# Altium integrated library Xilinx XASpartan3E FPGA.IntLib: 478 symbols (part 1 of 3)
Pins are listed as number, name and electrical type; pins without a type are passive.

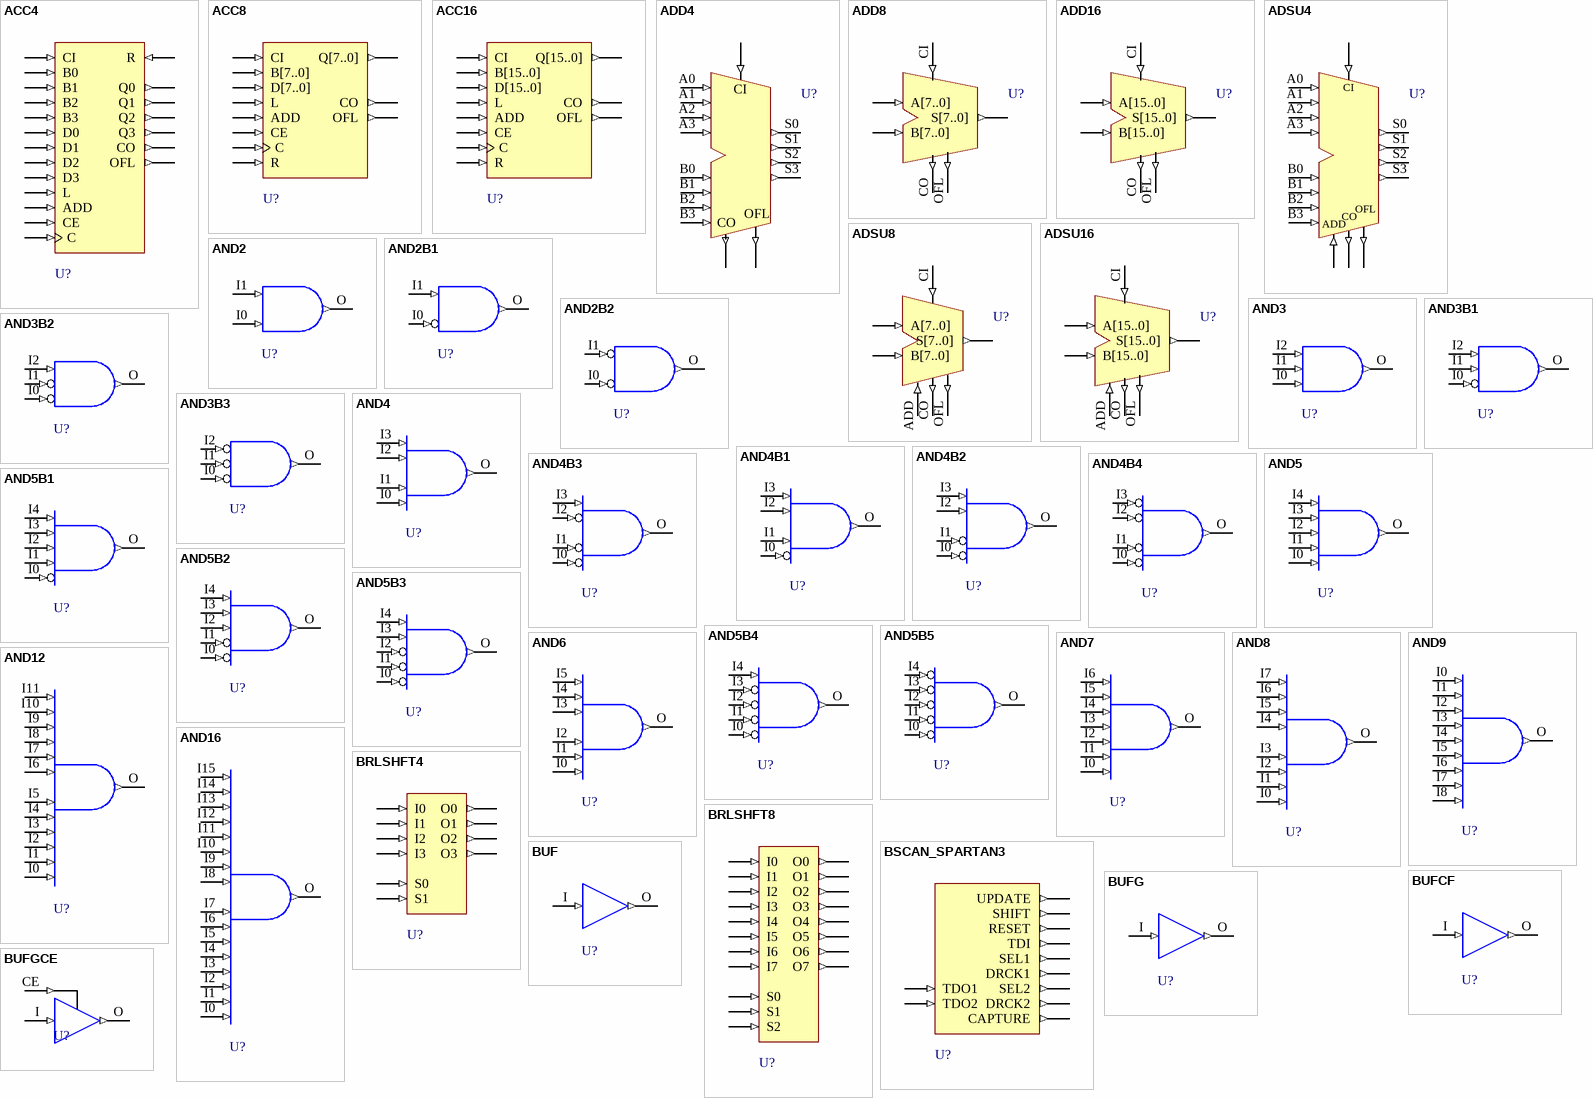
[diagram p0: symbols ACC4 to BUFGCE]

## ACC4
designator U?
4-Bit Loadable Cascadable Accumulator with Carry-In, Carry-Out and Synchronous Reset; FPGAVendor: Xilinx; Published: 20-May-2005; Publisher: Altium Limited; HelpURL: http://toolbox.xilinx.com/docsan/xilinx7/books/docs/s3esc/s3esc.pdf
pins: ADD (in), B0 (in), B1 (in), B2 (in), B3 (in), C (in), CE (in), CI (in), CO (out), D0 (in), D1 (in), D2 (in), D3 (in), L (in), OFL (out), Q0 (out), Q1 (out), Q2 (out), Q3 (out), R (in)

## ACC8
designator U?
8-Bit Loadable Cascadable Accumulator with Carry-In, Carry-Out and Synchronous Reset; FPGAVendor: Xilinx; Published: 20-May-2005; Publisher: Altium Limited; HelpURL: http://toolbox.xilinx.com/docsan/xilinx7/books/docs/s3esc/s3esc.pdf
pins: ADD (in), B[7..0] (in), C (in), CE (in), CI (in), CO (out), D[7..0] (in), L (in), OFL (out), Q[7..0] (out), R (in)

## ACC16
designator U?
16-Bit Loadable Cascadable Accumulator with Carry-In, Carry-Out and Synchronous Reset; FPGAVendor: Xilinx; Published: 20-May-2005; Publisher: Altium Limited; HelpURL: http://toolbox.xilinx.com/docsan/xilinx7/books/docs/s3esc/s3esc.pdf
pins: ADD (in), B[15..0] (in), C (in), CE (in), CI (in), CO (out), D[15..0] (in), L (in), OFL (out), Q[15..0] (out), R (in)

## ADD4
designator U?
4-Bit Cascadable Full Adders with Carry-In, Carry-Out and Overflow; FPGAVendor: Xilinx; Published: 20-May-2005; Publisher: Altium Limited; HelpURL: http://toolbox.xilinx.com/docsan/xilinx7/books/docs/s3esc/s3esc.pdf
pins: A0 (in), A1 (in), A2 (in), A3 (in), B0 (in), B1 (in), B2 (in), B3 (in), CI (in), CO (out), OFL (out), S0 (out), S1 (out), S2 (out), S3 (out)

## ADD8
designator U?
8-Bit Cascadable Full Adders with Carry-In, Carry-Out and Overflow; FPGAVendor: Xilinx; Published: 20-May-2005; Publisher: Altium Limited; HelpURL: http://toolbox.xilinx.com/docsan/xilinx7/books/docs/s3esc/s3esc.pdf
pins: A[7..0] (in), B[7..0] (in), CI (in), CO (out), OFL (out), S[7..0] (out)

## ADD16
designator U?
16-Bit Cascadable Full Adders with Carry-In, Carry-Out and Overflow; FPGAVendor: Xilinx; Published: 20-May-2005; Publisher: Altium Limited; HelpURL: http://toolbox.xilinx.com/docsan/xilinx7/books/docs/s3esc/s3esc.pdf
pins: A[15..0] (in), B[15..0] (in), CI (in), CO (out), OFL (out), S[15..0] (out)

## ADSU4
designator U?
4-Bit Cascadable Adders/Subtracters with Carry-In, Carry-Out and Overflow; FPGAVendor: Xilinx; Published: 20-May-2005; Publisher: Altium Limited; HelpURL: http://toolbox.xilinx.com/docsan/xilinx7/books/docs/s3esc/s3esc.pdf
pins: A0 (in), A1 (in), A2 (in), A3 (in), ADD (in), B0 (in), B1 (in), B2 (in), B3 (in), CI (in), CO (out), OFL (out), S0 (out), S1 (out), S2 (out), S3 (out)

## ADSU8
designator U?
8-Bit Cascadable Adders/Subtracters with Carry-In, Carry-Out and Overflow; FPGAVendor: Xilinx; Published: 20-May-2005; Publisher: Altium Limited; HelpURL: http://toolbox.xilinx.com/docsan/xilinx7/books/docs/s3esc/s3esc.pdf
pins: A[7..0] (in), ADD (in), B[7..0] (in), CI (in), CO (out), OFL (out), S[7..0] (out)

## ADSU16
designator U?
16-Bit Cascadable Adders/Subtracters with Carry-In, Carry-Out and Overflow; FPGAVendor: Xilinx; Published: 20-May-2005; Publisher: Altium Limited; HelpURL: http://toolbox.xilinx.com/docsan/xilinx7/books/docs/s3esc/s3esc.pdf
pins: A[15..0] (in), ADD (in), B[15..0] (in), CI (in), CO (out), OFL (out), S[15..0] (out)

## AND2
designator U?
2-Input AND Gate; FPGAVendor: Xilinx; Published: 20-May-2005; Publisher: Altium Limited; HelpURL: http://toolbox.xilinx.com/docsan/xilinx7/books/docs/s3esc/s3esc.pdf
pins: I0 (in), I1 (in), O (out)

## AND2B1
designator U?
2-Input AND Gate with One Inverted Input; FPGAVendor: Xilinx; Published: 20-May-2005; Publisher: Altium Limited; HelpURL: http://toolbox.xilinx.com/docsan/xilinx7/books/docs/s3esc/s3esc.pdf
pins: I0 (in), I1 (in), O (out)

## AND2B2
designator U?
2-Input AND Gate with Two Inverted Inputs; FPGAVendor: Xilinx; Published: 20-May-2005; Publisher: Altium Limited; HelpURL: http://toolbox.xilinx.com/docsan/xilinx7/books/docs/s3esc/s3esc.pdf
pins: I0 (in), I1 (in), O (out)

## AND3
designator U?
3-Input AND Gate; FPGAVendor: Xilinx; Published: 20-May-2005; Publisher: Altium Limited; HelpURL: http://toolbox.xilinx.com/docsan/xilinx7/books/docs/s3esc/s3esc.pdf
pins: I0 (in), I1 (in), I2 (in), O (out)

## AND3B1
designator U?
3-Input AND Gate with One Inverted Input; FPGAVendor: Xilinx; Published: 20-May-2005; Publisher: Altium Limited; HelpURL: http://toolbox.xilinx.com/docsan/xilinx7/books/docs/s3esc/s3esc.pdf
pins: I0 (in), I1 (in), I2 (in), O (out)

## AND3B2
designator U?
3-Input AND Gate with Two Inverted Inputs; FPGAVendor: Xilinx; Published: 20-May-2005; Publisher: Altium Limited; HelpURL: http://toolbox.xilinx.com/docsan/xilinx7/books/docs/s3esc/s3esc.pdf
pins: I0 (in), I1 (in), I2 (in), O (out)

## AND3B3
designator U?
3-Input AND Gate with Three Inverted Inputs; FPGAVendor: Xilinx; Published: 20-May-2005; Publisher: Altium Limited; HelpURL: http://toolbox.xilinx.com/docsan/xilinx7/books/docs/s3esc/s3esc.pdf
pins: I0 (in), I1 (in), I2 (in), O (out)

## AND4
designator U?
4-Input AND Gate; FPGAVendor: Xilinx; Published: 20-May-2005; Publisher: Altium Limited; HelpURL: http://toolbox.xilinx.com/docsan/xilinx7/books/docs/s3esc/s3esc.pdf
pins: I0 (in), I1 (in), I2 (in), I3 (in), O (out)

## AND4B1
designator U?
4-Input AND Gate with One Inverted Input; FPGAVendor: Xilinx; Published: 20-May-2005; Publisher: Altium Limited; HelpURL: http://toolbox.xilinx.com/docsan/xilinx7/books/docs/s3esc/s3esc.pdf
pins: I0 (in), I1 (in), I2 (in), I3 (in), O (out)

## AND4B2
designator U?
4-Input AND Gate with Two Inverted Inputs; FPGAVendor: Xilinx; Published: 20-May-2005; Publisher: Altium Limited; HelpURL: http://toolbox.xilinx.com/docsan/xilinx7/books/docs/s3esc/s3esc.pdf
pins: I0 (in), I1 (in), I2 (in), I3 (in), O (out)

## AND4B3
designator U?
4-Input AND Gate with Three Inverted Inputs; FPGAVendor: Xilinx; Published: 20-May-2005; Publisher: Altium Limited; HelpURL: http://toolbox.xilinx.com/docsan/xilinx7/books/docs/s3esc/s3esc.pdf
pins: I0 (in), I1 (in), I2 (in), I3 (in), O (out)

## AND4B4
designator U?
4-Input AND Gate with Four Inverted Inputs; FPGAVendor: Xilinx; Published: 20-May-2005; Publisher: Altium Limited; HelpURL: http://toolbox.xilinx.com/docsan/xilinx7/books/docs/s3esc/s3esc.pdf
pins: I0 (in), I1 (in), I2 (in), I3 (in), O (out)

## AND5
designator U?
5-Input AND Gate; FPGAVendor: Xilinx; Published: 20-May-2005; Publisher: Altium Limited; HelpURL: http://toolbox.xilinx.com/docsan/xilinx7/books/docs/s3esc/s3esc.pdf
pins: I0 (in), I1 (in), I2 (in), I3 (in), I4 (in), O (out)

## AND5B1
designator U?
5-Input AND Gate with One Inverted Input; FPGAVendor: Xilinx; Published: 20-May-2005; Publisher: Altium Limited; HelpURL: http://toolbox.xilinx.com/docsan/xilinx7/books/docs/s3esc/s3esc.pdf
pins: I0 (in), I1 (in), I2 (in), I3 (in), I4 (in), O (out)

## AND5B2
designator U?
5-Input AND Gate with Two Inverted Inputs; FPGAVendor: Xilinx; Published: 20-May-2005; Publisher: Altium Limited; HelpURL: http://toolbox.xilinx.com/docsan/xilinx7/books/docs/s3esc/s3esc.pdf
pins: I0 (in), I1 (in), I2 (in), I3 (in), I4 (in), O (out)

## AND5B3
designator U?
5-Input AND Gate with Three Inverted Inputs; FPGAVendor: Xilinx; Published: 20-May-2005; Publisher: Altium Limited; HelpURL: http://toolbox.xilinx.com/docsan/xilinx7/books/docs/s3esc/s3esc.pdf
pins: I0 (in), I1 (in), I2 (in), I3 (in), I4 (in), O (out)

## AND5B4
designator U?
5-Input AND Gate with Four Inverted Inputs; FPGAVendor: Xilinx; Published: 20-May-2005; Publisher: Altium Limited; HelpURL: http://toolbox.xilinx.com/docsan/xilinx7/books/docs/s3esc/s3esc.pdf
pins: I0 (in), I1 (in), I2 (in), I3 (in), I4 (in), O (out)

## AND5B5
designator U?
5-Input AND Gate with Five Inverted Inputs; FPGAVendor: Xilinx; Published: 20-May-2005; Publisher: Altium Limited; HelpURL: http://toolbox.xilinx.com/docsan/xilinx7/books/docs/s3esc/s3esc.pdf
pins: I0 (in), I1 (in), I2 (in), I3 (in), I4 (in), O (out)

## AND6
designator U?
6-Input AND Gate; FPGAVendor: Xilinx; Published: 20-May-2005; Publisher: Altium Limited; HelpURL: http://toolbox.xilinx.com/docsan/xilinx7/books/docs/s3esc/s3esc.pdf
pins: I0 (in), I1 (in), I2 (in), I3 (in), I4 (in), I5 (in), O (out)

## AND7
designator U?
7-Input AND Gate; FPGAVendor: Xilinx; Published: 20-May-2005; Publisher: Altium Limited; HelpURL: http://toolbox.xilinx.com/docsan/xilinx7/books/docs/s3esc/s3esc.pdf
pins: I0 (in), I1 (in), I2 (in), I3 (in), I4 (in), I5 (in), I6 (in), O (out)

## AND8
designator U?
8-Input AND Gate; FPGAVendor: Xilinx; Published: 20-May-2005; Publisher: Altium Limited; HelpURL: http://toolbox.xilinx.com/docsan/xilinx7/books/docs/s3esc/s3esc.pdf
pins: I0 (in), I1 (in), I2 (in), I3 (in), I4 (in), I5 (in), I6 (in), I7 (in), O (out)

## AND9
designator U?
9-Input AND Gate; FPGAVendor: Xilinx; Published: 20-May-2005; Publisher: Altium Limited; HelpURL: http://toolbox.xilinx.com/docsan/xilinx7/books/docs/s3esc/s3esc.pdf
pins: I0 (in), I1 (in), I2 (in), I3 (in), I4 (in), I5 (in), I6 (in), I7 (in), I8 (in), O (out)

## AND12
designator U?
12-Input AND Gate; FPGAVendor: Xilinx; Published: 20-May-2005; Publisher: Altium Limited; HelpURL: http://toolbox.xilinx.com/docsan/xilinx7/books/docs/s3esc/s3esc.pdf
pins: I0 (in), I1 (in), I2 (in), I3 (in), I4 (in), I5 (in), I6 (in), I7 (in), I8 (in), I9 (in), I10 (in), I11 (in), O (out)

## AND16
designator U?
16-Input AND Gate; FPGAVendor: Xilinx; Published: 20-May-2005; Publisher: Altium Limited; HelpURL: http://toolbox.xilinx.com/docsan/xilinx7/books/docs/s3esc/s3esc.pdf
pins: I0 (in), I1 (in), I2 (in), I3 (in), I4 (in), I5 (in), I6 (in), I7 (in), I8 (in), I9 (in), I10 (in), I11 (in), I12 (in), I13 (in), I14 (in), I15 (in), O (out)

## BRLSHFT4
designator U?
4-Bit Barrel Shifter; FPGAVendor: Xilinx; Published: 20-May-2005; Publisher: Altium Limited; HelpURL: http://toolbox.xilinx.com/docsan/xilinx7/books/docs/s3esc/s3esc.pdf
pins: I0 (in), I1 (in), I2 (in), I3 (in), O0 (out), O1 (out), O2 (out), O3 (out), S0 (in), S1 (in)

## BRLSHFT8
designator U?
8-Bit Barrel Shifter; FPGAVendor: Xilinx; Published: 20-May-2005; Publisher: Altium Limited; HelpURL: http://toolbox.xilinx.com/docsan/xilinx7/books/docs/s3esc/s3esc.pdf
pins: I0 (in), I1 (in), I2 (in), I3 (in), I4 (in), I5 (in), I6 (in), I7 (in), O0 (out), O1 (out), O2 (out), O3 (out), O4 (out), O5 (out), O6 (out), O7 (out), S0 (in), S1 (in), S2 (in)

## BSCAN_SPARTAN3
designator U?
Spartan-3 Boundary Scan Logic Control Circuit; FPGAVendor: Xilinx; Published: 20-May-2005; Publisher: Altium Limited; HelpURL: http://toolbox.xilinx.com/docsan/xilinx7/books/docs/s3esc/s3esc.pdf
pins: CAPTURE (out), DRCK1 (out), DRCK2 (out), RESET (out), SEL1 (out), SEL2 (out), SHIFT (out), TDI (out), TDO1 (in), TDO2 (in), UPDATE (out)

## BUF
designator U?
Global Clock Buffer; FPGAVendor: Xilinx; Published: 20-May-2005; Publisher: Altium Limited; HelpURL: http://toolbox.xilinx.com/docsan/xilinx7/books/docs/s3esc/s3esc.pdf
pins: I (in), O (out)

## BUFCF
designator U?
Global Clock Buffer; FPGAVendor: Xilinx; Published: 20-May-2005; Publisher: Altium Limited; HelpURL: http://toolbox.xilinx.com/docsan/xilinx7/books/docs/s3esc/s3esc.pdf
pins: I (in), O (out)

## BUFG
designator U?
Global Clock Buffer; FPGAVendor: Xilinx; Published: 20-May-2005; Publisher: Altium Limited; HelpURL: http://toolbox.xilinx.com/docsan/xilinx7/books/docs/s3esc/s3esc.pdf
pins: I (in), O (out)

## BUFGCE
designator U?
Global Clock MUX Buffer with Clock Enable and Output State 0; FPGAVendor: Xilinx; Published: 20-May-2005; Publisher: Altium Limited; HelpURL: http://toolbox.xilinx.com/docsan/xilinx7/books/docs/s3esc/s3esc.pdf
pins: CE (in), I (in), O (out)

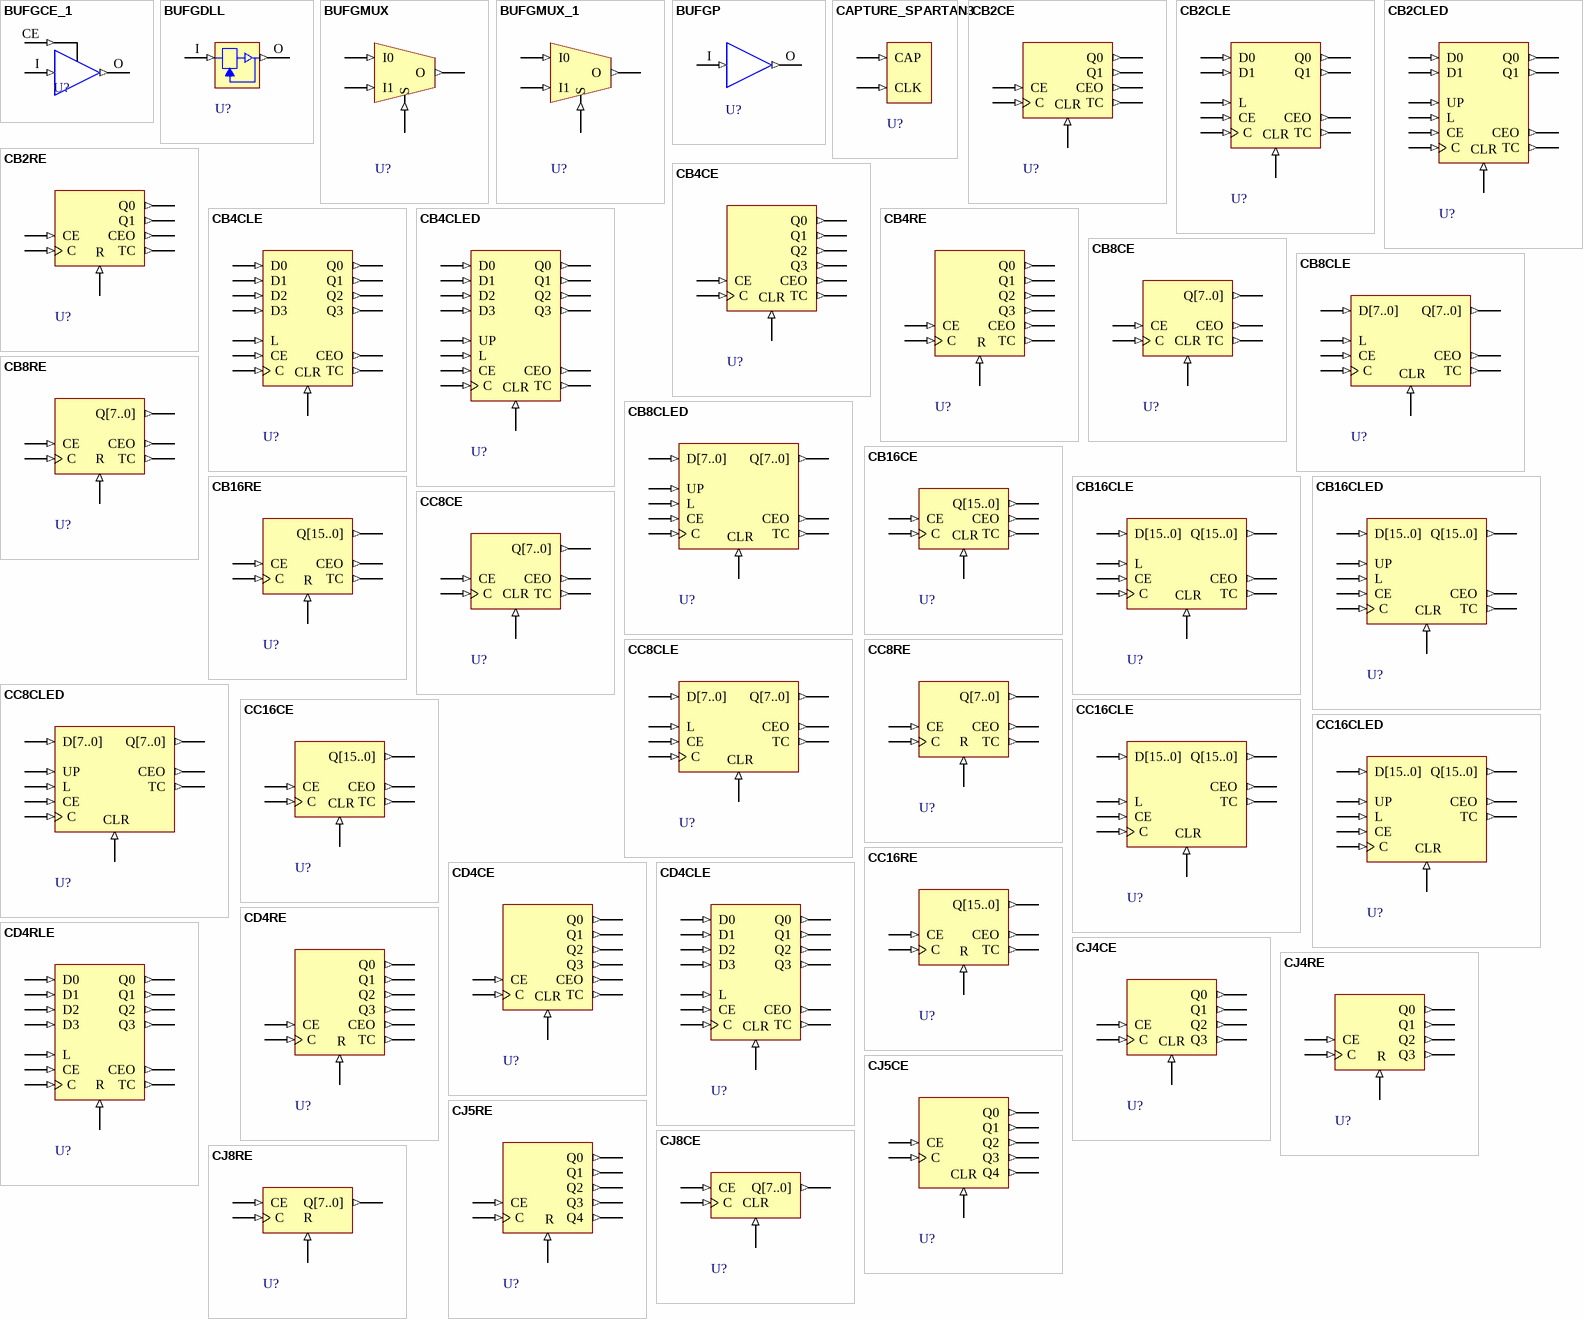
[diagram p1: symbols BUFGCE_1 to CJ8RE]

## BUFGCE_1
designator U?
Global Clock MUX Buffer with Clock Enable and Output State 1; FPGAVendor: Xilinx; Published: 20-May-2005; Publisher: Altium Limited; HelpURL: http://toolbox.xilinx.com/docsan/xilinx7/books/docs/s3esc/s3esc.pdf
pins: CE (in), I (in), O (out)

## BUFGDLL
designator U?
Clock Delay Locked Loop Buffer; FPGAVendor: Xilinx; Published: 20-May-2005; Publisher: Altium Limited; HelpURL: http://toolbox.xilinx.com/docsan/xilinx7/books/docs/s3esc/s3esc.pdf
pins: I (in), O (out)

## BUFGMUX
designator U?
Global Clock MUX Buffer with Output State 0; FPGAVendor: Xilinx; Published: 20-May-2005; Publisher: Altium Limited; HelpURL: http://toolbox.xilinx.com/docsan/xilinx7/books/docs/s3esc/s3esc.pdf
pins: I0 (in), I1 (in), O (out), S (in)

## BUFGMUX_1
designator U?
Global Clock MUX Buffer with Output State 1; FPGAVendor: Xilinx; Published: 20-May-2005; Publisher: Altium Limited; HelpURL: http://toolbox.xilinx.com/docsan/xilinx7/books/docs/s3esc/s3esc.pdf
pins: I0 (in), I1 (in), O (out), S (in)

## BUFGP
designator U?
Primary Global Buffer for Driving Clocks or Longlines (Four per PLD Device); FPGAVendor: Xilinx; Published: 20-May-2005; Publisher: Altium Limited; HelpURL: http://toolbox.xilinx.com/docsan/xilinx7/books/docs/s3esc/s3esc.pdf
pins: I (in), O (out)

## CAPTURE_SPARTAN3
designator U?
Spartan-3 Register State Capture for Bitstream Readback; FPGAVendor: Xilinx; Published: 20-May-2005; Publisher: Altium Limited; HelpURL: http://toolbox.xilinx.com/docsan/xilinx7/books/docs/s3esc/s3esc.pdf
pins: CAP (in), CLK (in)

## CB2CE
designator U?
2-Bit Cascadable Binary Counter with Clock Enable and Asynchronous Clear; FPGAVendor: Xilinx; Published: 20-May-2005; Publisher: Altium Limited; HelpURL: http://toolbox.xilinx.com/docsan/xilinx7/books/docs/s3esc/s3esc.pdf
pins: C (in), CE (in), CEO (out), CLR (in), Q0 (out), Q1 (out), TC (out)

## CB2CLE
designator U?
2-Bit Loadable Cascadable Binary Counter with Clock Enable and Asynchronous Clear; FPGAVendor: Xilinx; Published: 20-May-2005; Publisher: Altium Limited; HelpURL: http://toolbox.xilinx.com/docsan/xilinx7/books/docs/s3esc/s3esc.pdf
pins: C (in), CE (in), CEO (out), CLR (in), D0 (in), D1 (in), L (in), Q0 (out), Q1 (out), TC (out)

## CB2CLED
designator U?
2-Bit Loadable Cascadable Bidirectional Binary Counter with Clock Enable and Asynchronous Clear; FPGAVendor: Xilinx; Published: 20-May-2005; Publisher: Altium Limited; HelpURL: http://toolbox.xilinx.com/docsan/xilinx7/books/docs/s3esc/s3esc.pdf
pins: C (in), CE (in), CEO (out), CLR (in), D0 (in), D1 (in), L (in), Q0 (out), Q1 (out), TC (out), UP (in)

## CB2RE
designator U?
2-Bit Cascadable Binary Counter with Clock Enable and Synchronous Reset; FPGAVendor: Xilinx; Published: 20-May-2005; Publisher: Altium Limited; HelpURL: http://toolbox.xilinx.com/docsan/xilinx7/books/docs/s3esc/s3esc.pdf
pins: C (in), CE (in), CEO (out), Q0 (out), Q1 (out), R (in), TC (out)

## CB4CE
designator U?
4-Bit Cascadable Binary Counter with Clock Enable and Asynchronous Clear; FPGAVendor: Xilinx; Published: 20-May-2005; Publisher: Altium Limited; HelpURL: http://toolbox.xilinx.com/docsan/xilinx7/books/docs/s3esc/s3esc.pdf
pins: C (in), CE (in), CEO (out), CLR (in), Q0 (out), Q1 (out), Q2 (out), Q3 (out), TC (out)

## CB4CLE
designator U?
4-Bit Loadable Cascadable Binary Counter with Clock Enable and Asynchronous Clear; FPGAVendor: Xilinx; Published: 20-May-2005; Publisher: Altium Limited; HelpURL: http://toolbox.xilinx.com/docsan/xilinx7/books/docs/s3esc/s3esc.pdf
pins: C (in), CE (in), CEO (out), CLR (in), D0 (in), D1 (in), D2 (in), D3 (in), L (in), Q0 (out), Q1 (out), Q2 (out), Q3 (out), TC (out)

## CB4CLED
designator U?
4-Bit Loadable Cascadable Bidirectional Binary Counter with Clock Enable and Asynchronous Clear; FPGAVendor: Xilinx; Published: 20-May-2005; Publisher: Altium Limited; HelpURL: http://toolbox.xilinx.com/docsan/xilinx7/books/docs/s3esc/s3esc.pdf
pins: C (in), CE (in), CEO (out), CLR (in), D0 (in), D1 (in), D2 (in), D3 (in), L (in), Q0 (out), Q1 (out), Q2 (out), Q3 (out), TC (out), UP (in)

## CB4RE
designator U?
4-Bit Cascadable Binary Counter with Clock Enable and Synchronous Reset; FPGAVendor: Xilinx; Published: 20-May-2005; Publisher: Altium Limited; HelpURL: http://toolbox.xilinx.com/docsan/xilinx7/books/docs/s3esc/s3esc.pdf
pins: C (in), CE (in), CEO (out), Q0 (out), Q1 (out), Q2 (out), Q3 (out), R (in), TC (out)

## CB8CE
designator U?
8-Bit Cascadable Binary Counter with Clock Enable and Asynchronous Clear; FPGAVendor: Xilinx; Published: 20-May-2005; Publisher: Altium Limited; HelpURL: http://toolbox.xilinx.com/docsan/xilinx7/books/docs/s3esc/s3esc.pdf
pins: C (in), CE (in), CEO (out), CLR (in), Q[7..0] (out), TC (out)

## CB8CLE
designator U?
8-Bit Loadable Cascadable Binary Counter with Clock Enable and Asynchronous Clear; FPGAVendor: Xilinx; Published: 20-May-2005; Publisher: Altium Limited; HelpURL: http://toolbox.xilinx.com/docsan/xilinx7/books/docs/s3esc/s3esc.pdf
pins: C (in), CE (in), CEO (out), CLR (in), D[7..0] (in), L (in), Q[7..0] (out), TC (out)

## CB8CLED
designator U?
8-Bit Loadable Cascadable Bidirectional Binary Counter with Clock Enable and Asynchronous Clear; FPGAVendor: Xilinx; Published: 20-May-2005; Publisher: Altium Limited; HelpURL: http://toolbox.xilinx.com/docsan/xilinx7/books/docs/s3esc/s3esc.pdf
pins: C (in), CE (in), CEO (out), CLR (in), D[7..0] (in), L (in), Q[7..0] (out), TC (out), UP (in)

## CB8RE
designator U?
8-Bit Cascadable Binary Counter with Clock Enable and Synchronous Reset; FPGAVendor: Xilinx; Published: 20-May-2005; Publisher: Altium Limited; HelpURL: http://toolbox.xilinx.com/docsan/xilinx7/books/docs/s3esc/s3esc.pdf
pins: C (in), CE (in), CEO (out), Q[7..0] (out), R (in), TC (out)

## CB16CE
designator U?
16-Bit Cascadable Binary Counter with Clock Enable and Asynchronous Clear; FPGAVendor: Xilinx; Published: 20-May-2005; Publisher: Altium Limited; HelpURL: http://toolbox.xilinx.com/docsan/xilinx7/books/docs/s3esc/s3esc.pdf
pins: C (in), CE (in), CEO (out), CLR (in), Q[15..0] (out), TC (out)

## CB16CLE
designator U?
16-Bit Loadable Cascadable Binary Counters with Clock Enable and Asynchronous Clear; FPGAVendor: Xilinx; Published: 20-May-2005; Publisher: Altium Limited; HelpURL: http://toolbox.xilinx.com/docsan/xilinx7/books/docs/s3esc/s3esc.pdf
pins: C (in), CE (in), CEO (out), CLR (in), D[15..0] (in), L (in), Q[15..0] (out), TC (out)

## CB16CLED
designator U?
16-Bit Loadable Cascadable Bidirectional Binary Counter with Clock Enable and Asynchronous Clear; FPGAVendor: Xilinx; Published: 20-May-2005; Publisher: Altium Limited; HelpURL: http://toolbox.xilinx.com/docsan/xilinx7/books/docs/s3esc/s3esc.pdf
pins: C (in), CE (in), CEO (out), CLR (in), D[15..0] (in), L (in), Q[15..0] (out), TC (out), UP (in)

## CB16RE
designator U?
16-Bit Cascadable Binary Counter with Clock Enable and Synchronous Reset; FPGAVendor: Xilinx; Published: 20-May-2005; Publisher: Altium Limited; HelpURL: http://toolbox.xilinx.com/docsan/xilinx7/books/docs/s3esc/s3esc.pdf
pins: C (in), CE (in), CEO (out), Q[15..0] (out), R (in), TC (out)

## CC8CE
designator U?
8-Bit Cascadable Binary Counter with Clock Enable and Asynchronous Clear; FPGAVendor: Xilinx; Published: 20-May-2005; Publisher: Altium Limited; HelpURL: http://toolbox.xilinx.com/docsan/xilinx7/books/docs/s3esc/s3esc.pdf
pins: C (in), CE (in), CEO (out), CLR (in), Q[7..0] (out), TC (out)

## CC8CLE
designator U?
8-Bit Loadable Cascadable Binary Counter with Clock Enable and Asynchronous Clear; FPGAVendor: Xilinx; Published: 20-May-2005; Publisher: Altium Limited; HelpURL: http://toolbox.xilinx.com/docsan/xilinx7/books/docs/s3esc/s3esc.pdf
pins: C (in), CE (in), CEO (out), CLR (in), D[7..0] (in), L (in), Q[7..0] (out), TC (out)

## CC8CLED
designator U?
8-Bit Loadable Cascadable Bidirectional Binary Counter with Clock Enable and Asynchronous Clear; FPGAVendor: Xilinx; Published: 20-May-2005; Publisher: Altium Limited; HelpURL: http://toolbox.xilinx.com/docsan/xilinx7/books/docs/s3esc/s3esc.pdf
pins: C (in), CE (in), CEO (out), CLR (in), D[7..0] (in), L (in), Q[7..0] (out), TC (out), UP (in)

## CC8RE
designator U?
8-Bit Cascadable Binary Counter with Clock Enable and Synchronous Reset; FPGAVendor: Xilinx; Published: 20-May-2005; Publisher: Altium Limited; HelpURL: http://toolbox.xilinx.com/docsan/xilinx7/books/docs/s3esc/s3esc.pdf
pins: C (in), CE (in), CEO (out), Q[7..0] (out), R (in), TC (out)

## CC16CE
designator U?
16-Bit Cascadable Binary Counter with Clock Enable and Asynchronous Clear; FPGAVendor: Xilinx; Published: 20-May-2005; Publisher: Altium Limited; HelpURL: http://toolbox.xilinx.com/docsan/xilinx7/books/docs/s3esc/s3esc.pdf
pins: C (in), CE (in), CEO (out), CLR (in), Q[15..0] (out), TC (out)

## CC16CLE
designator U?
16-Bit Loadable Cascadable Binary Counter with Clock Enable and Asynchronous Clear; FPGAVendor: Xilinx; Published: 20-May-2005; Publisher: Altium Limited; HelpURL: http://toolbox.xilinx.com/docsan/xilinx7/books/docs/s3esc/s3esc.pdf
pins: C (in), CE (in), CEO (out), CLR (in), D[15..0] (in), L (in), Q[15..0] (out), TC (out)

## CC16CLED
designator U?
16-Bit Loadable Cascadable Bidirectional Binary Counter with Clock Enable and Asynchronous Clear; FPGAVendor: Xilinx; Published: 20-May-2005; Publisher: Altium Limited; HelpURL: http://toolbox.xilinx.com/docsan/xilinx7/books/docs/s3esc/s3esc.pdf
pins: C (in), CE (in), CEO (out), CLR (in), D[15..0] (in), L (in), Q[15..0] (out), TC (out), UP (in)

## CC16RE
designator U?
16-Bit Cascadable Binary Counter with Clock Enable and Synchronous Reset; FPGAVendor: Xilinx; Published: 20-May-2005; Publisher: Altium Limited; HelpURL: http://toolbox.xilinx.com/docsan/xilinx7/books/docs/s3esc/s3esc.pdf
pins: C (in), CE (in), CEO (out), Q[15..0] (out), R (in), TC (out)

## CD4CE
designator U?
4-Bit Cascadable BCD Counter with Clock Enable and Asynchronous Clear; FPGAVendor: Xilinx; Published: 20-May-2005; Publisher: Altium Limited; HelpURL: http://toolbox.xilinx.com/docsan/xilinx7/books/docs/s3esc/s3esc.pdf
pins: C (in), CE (in), CEO (out), CLR (in), Q0 (out), Q1 (out), Q2 (out), Q3 (out), TC (out)

## CD4CLE
designator U?
4-Bit Loadable Cascadable BCD Counter with Clock Enable and Asynchronous Clear; FPGAVendor: Xilinx; Published: 20-May-2005; Publisher: Altium Limited; HelpURL: http://toolbox.xilinx.com/docsan/xilinx7/books/docs/s3esc/s3esc.pdf
pins: C (in), CE (in), CEO (out), CLR (in), D0 (in), D1 (in), D2 (in), D3 (in), L (in), Q0 (out), Q1 (out), Q2 (out), Q3 (out), TC (out)

## CD4RE
designator U?
4-Bit Cascadable BCD Counter with Clock Enable and Synchronous Reset; FPGAVendor: Xilinx; Published: 20-May-2005; Publisher: Altium Limited; HelpURL: http://toolbox.xilinx.com/docsan/xilinx7/books/docs/s3esc/s3esc.pdf
pins: C (in), CE (in), CEO (out), Q0 (out), Q1 (out), Q2 (out), Q3 (out), R (in), TC (out)

## CD4RLE
designator U?
4-Bit Loadable Cascadable BCD Counter with Clock Enable and Synchronous Reset; FPGAVendor: Xilinx; Published: 20-May-2005; Publisher: Altium Limited; HelpURL: http://toolbox.xilinx.com/docsan/xilinx7/books/docs/s3esc/s3esc.pdf
pins: C (in), CE (in), CEO (out), D0 (in), D1 (in), D2 (in), D3 (in), L (in), Q0 (out), Q1 (out), Q2 (out), Q3 (out), R (in), TC (out)

## CJ4CE
designator U?
4-Bit Johnson Counter with Clock Enable and Asynchronous Clear; FPGAVendor: Xilinx; Published: 20-May-2005; Publisher: Altium Limited; HelpURL: http://toolbox.xilinx.com/docsan/xilinx7/books/docs/s3esc/s3esc.pdf
pins: C (in), CE (in), CLR (in), Q0 (out), Q1 (out), Q2 (out), Q3 (out)

## CJ4RE
designator U?
4-Bit Johnson Counter with Clock Enable and Synchronous Reset; FPGAVendor: Xilinx; Published: 20-May-2005; Publisher: Altium Limited; HelpURL: http://toolbox.xilinx.com/docsan/xilinx7/books/docs/s3esc/s3esc.pdf
pins: C (in), CE (in), Q0 (out), Q1 (out), Q2 (out), Q3 (out), R (in)

## CJ5CE
designator U?
5-Bit Johnson Counter with Clock Enable and Asynchronous Clear; FPGAVendor: Xilinx; Published: 20-May-2005; Publisher: Altium Limited; HelpURL: http://toolbox.xilinx.com/docsan/xilinx7/books/docs/s3esc/s3esc.pdf
pins: C (in), CE (in), CLR (in), Q0 (out), Q1 (out), Q2 (out), Q3 (out), Q4 (out)

## CJ5RE
designator U?
5-Bit Johnson Counters with Clock Enable and Synchronous Reset; FPGAVendor: Xilinx; Published: 20-May-2005; Publisher: Altium Limited; HelpURL: http://toolbox.xilinx.com/docsan/xilinx7/books/docs/s3esc/s3esc.pdf
pins: C (in), CE (in), Q0 (out), Q1 (out), Q2 (out), Q3 (out), Q4 (out), R (in)

## CJ8CE
designator U?
8-Bit Johnson Counter with Clock Enable and Asynchronous Clear; FPGAVendor: Xilinx; Published: 20-May-2005; Publisher: Altium Limited; HelpURL: http://toolbox.xilinx.com/docsan/xilinx7/books/docs/s3esc/s3esc.pdf
pins: C (in), CE (in), CLR (in), Q[7..0] (out)

## CJ8RE
designator U?
8-Bit Johnson Counter with Clock Enable and Synchronous Reset; FPGAVendor: Xilinx; Published: 20-May-2005; Publisher: Altium Limited; HelpURL: http://toolbox.xilinx.com/docsan/xilinx7/books/docs/s3esc/s3esc.pdf
pins: C (in), CE (in), Q[7..0] (out), R (in)

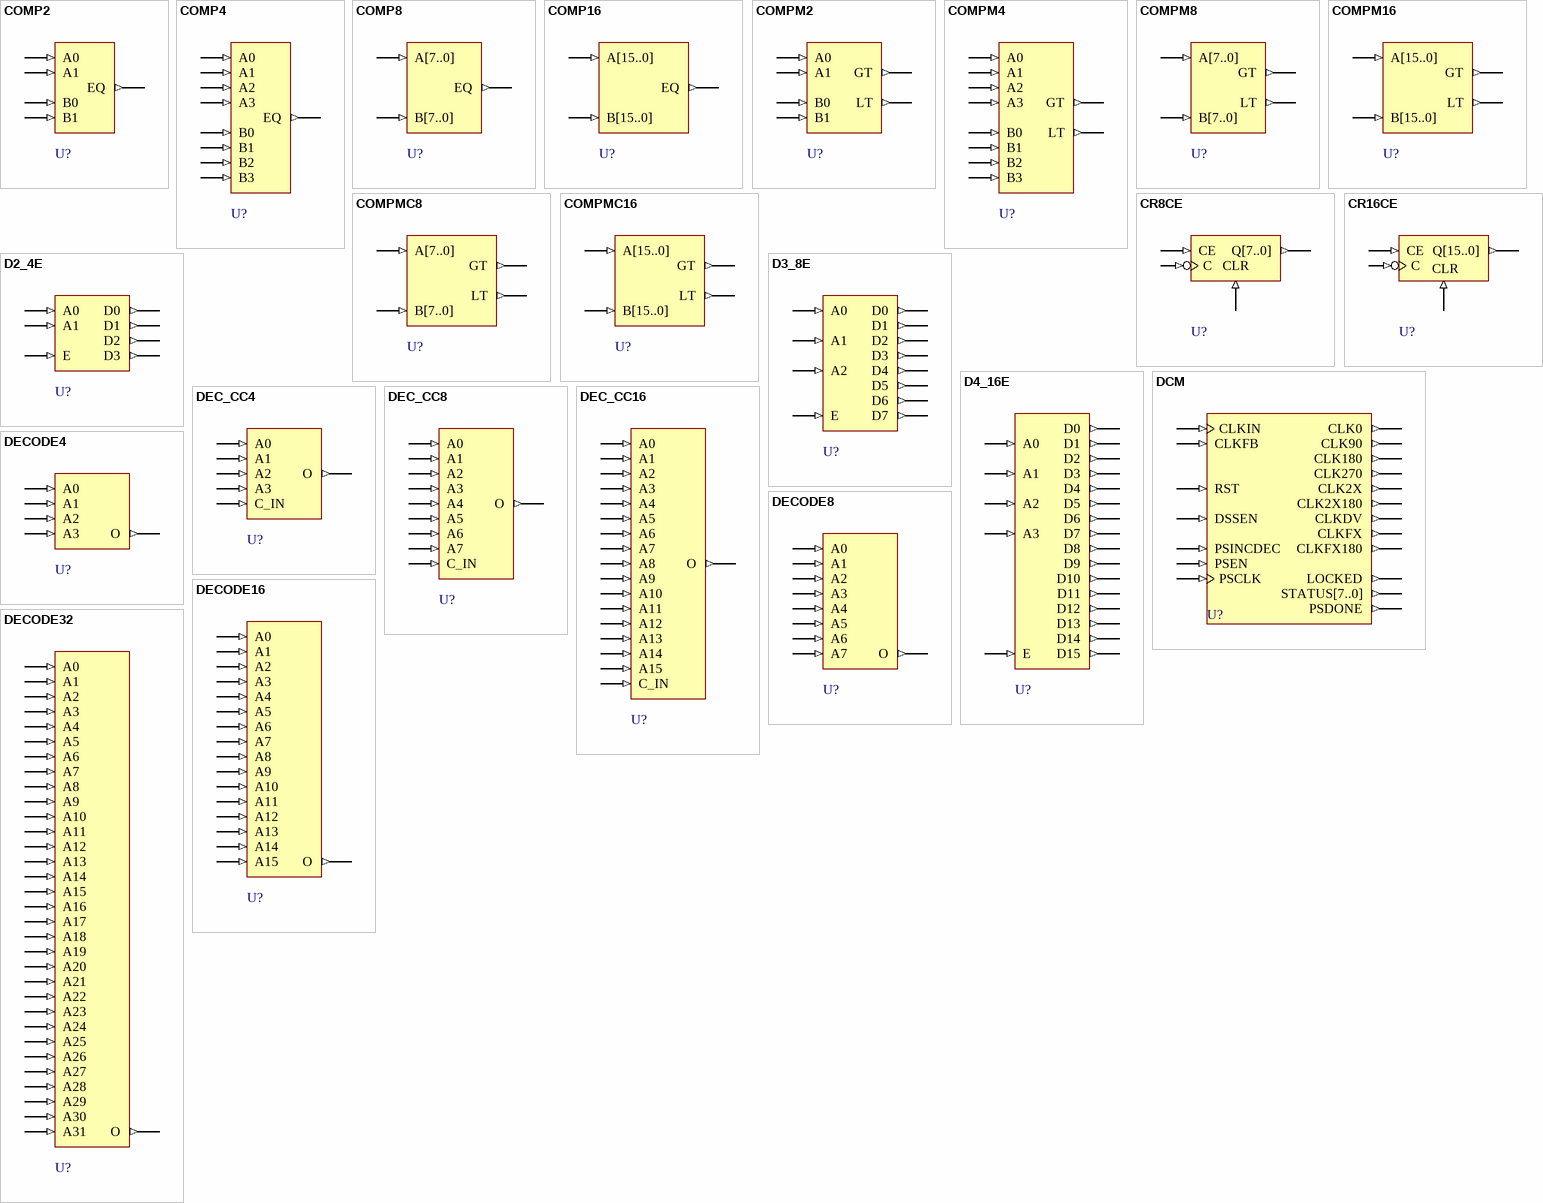
[diagram p2: symbols COMP2 to DECODE32]

## COMP2
designator U?
2-Bit Identity Comparator; FPGAVendor: Xilinx; Published: 20-May-2005; Publisher: Altium Limited; HelpURL: http://toolbox.xilinx.com/docsan/xilinx7/books/docs/s3esc/s3esc.pdf
pins: A0 (in), A1 (in), B0 (in), B1 (in), EQ (out)

## COMP4
designator U?
4-Bit Identity Comparator; FPGAVendor: Xilinx; Published: 20-May-2005; Publisher: Altium Limited; HelpURL: http://toolbox.xilinx.com/docsan/xilinx7/books/docs/s3esc/s3esc.pdf
pins: A0 (in), A1 (in), A2 (in), A3 (in), B0 (in), B1 (in), B2 (in), B3 (in), EQ (out)

## COMP8
designator U?
8-Bit Identity Comparator; FPGAVendor: Xilinx; Published: 20-May-2005; Publisher: Altium Limited; HelpURL: http://toolbox.xilinx.com/docsan/xilinx7/books/docs/s3esc/s3esc.pdf
pins: A[7..0] (in), B[7..0] (in), EQ (out)

## COMP16
designator U?
16-Bit Identity Comparator; FPGAVendor: Xilinx; Published: 20-May-2005; Publisher: Altium Limited; HelpURL: http://toolbox.xilinx.com/docsan/xilinx7/books/docs/s3esc/s3esc.pdf
pins: A[15..0] (in), B[15..0] (in), EQ (out)

## COMPM2
designator U?
2-Bit Magnitude Comparator; FPGAVendor: Xilinx; Published: 20-May-2005; Publisher: Altium Limited; HelpURL: http://toolbox.xilinx.com/docsan/xilinx7/books/docs/s3esc/s3esc.pdf
pins: A0 (in), A1 (in), B0 (in), B1 (in), GT (out), LT (out)

## COMPM4
designator U?
4-Bit Magnitude Comparator; FPGAVendor: Xilinx; Published: 20-May-2005; Publisher: Altium Limited; HelpURL: http://toolbox.xilinx.com/docsan/xilinx7/books/docs/s3esc/s3esc.pdf
pins: A0 (in), A1 (in), A2 (in), A3 (in), B0 (in), B1 (in), B2 (in), B3 (in), GT (out), LT (out)

## COMPM8
designator U?
8-Bit Magnitude Comparator; FPGAVendor: Xilinx; Published: 20-May-2005; Publisher: Altium Limited; HelpURL: http://toolbox.xilinx.com/docsan/xilinx7/books/docs/s3esc/s3esc.pdf
pins: A[7..0] (in), B[7..0] (in), GT (out), LT (out)

## COMPM16
designator U?
16-Bit Magnitude Comparator; FPGAVendor: Xilinx; Published: 20-May-2005; Publisher: Altium Limited; HelpURL: http://toolbox.xilinx.com/docsan/xilinx7/books/docs/s3esc/s3esc.pdf
pins: A[15..0] (in), B[15..0] (in), GT (out), LT (out)

## COMPMC8
designator U?
8-Bit Magnitude Comparator; FPGAVendor: Xilinx; Published: 20-May-2005; Publisher: Altium Limited; HelpURL: http://toolbox.xilinx.com/docsan/xilinx7/books/docs/s3esc/s3esc.pdf
pins: A[7..0] (in), B[7..0] (in), GT (out), LT (out)

## COMPMC16
designator U?
16-Bit Magnitude Comparator; FPGAVendor: Xilinx; Published: 20-May-2005; Publisher: Altium Limited; HelpURL: http://toolbox.xilinx.com/docsan/xilinx7/books/docs/s3esc/s3esc.pdf
pins: A[15..0] (in), B[15..0] (in), GT (out), LT (out)

## CR8CE
designator U?
8-Bit Negative-Edge Binary Ripple Counter with Clock Enable and Asynchronous Clear; FPGAVendor: Xilinx; Published: 20-May-2005; Publisher: Altium Limited; HelpURL: http://toolbox.xilinx.com/docsan/xilinx7/books/docs/s3esc/s3esc.pdf
pins: C (in), CE (in), CLR (in), Q[7..0] (out)

## CR16CE
designator U?
16-Bit Negative-Edge Binary Ripple Counter with Clock Enable and Asynchronous Clear; FPGAVendor: Xilinx; Published: 20-May-2005; Publisher: Altium Limited; HelpURL: http://toolbox.xilinx.com/docsan/xilinx7/books/docs/s3esc/s3esc.pdf
pins: C (in), CE (in), CLR (in), Q[15..0] (out)

## D2_4E
designator U?
2- to 4-Line Decoder/Demultiplexer with Enable; FPGAVendor: Xilinx; Published: 20-May-2005; Publisher: Altium Limited; HelpURL: http://toolbox.xilinx.com/docsan/xilinx7/books/docs/s3esc/s3esc.pdf
pins: A0 (in), A1 (in), D0 (out), D1 (out), D2 (out), D3 (out), E (in)

## D3_8E
designator U?
3- to 8-Line Decoder/Demultiplexer with Enable; FPGAVendor: Xilinx; Published: 20-May-2005; Publisher: Altium Limited; HelpURL: http://toolbox.xilinx.com/docsan/xilinx7/books/docs/s3esc/s3esc.pdf
pins: A0 (in), A1 (in), A2 (in), D0 (out), D1 (out), D2 (out), D3 (out), D4 (out), D5 (out), D6 (out), D7 (out), E (in)

## D4_16E
designator U?
4- to 16-Line Decoder/Demultiplexer with Enable; FPGAVendor: Xilinx; Published: 20-May-2005; Publisher: Altium Limited; HelpURL: http://toolbox.xilinx.com/docsan/xilinx7/books/docs/s3esc/s3esc.pdf
pins: A0 (in), A1 (in), A2 (in), A3 (in), D0 (out), D1 (out), D2 (out), D3 (out), D4 (out), D5 (out), D6 (out), D7 (out), D8 (out), D9 (out), D10 (out), D11 (out), D12 (out), D13 (out), D14 (out), D15 (out), E (in)

## DCM
designator U?
Digital Clock Manager; FPGAVendor: Xilinx; Published: 20-May-2005; Publisher: Altium Limited; HelpURL: http://toolbox.xilinx.com/docsan/xilinx7/books/docs/s3esc/s3esc.pdf
pins: CLK0 (out), CLK2X (out), CLK2X180 (out), CLK90 (out), CLK180 (out), CLK270 (out), CLKDV (out), CLKFB (in), CLKFX (out), CLKFX180 (out), CLKIN (in), DSSEN (in), LOCKED (out), PSCLK (in), PSDONE (out), PSEN (in), PSINCDEC (in), RST (in), STATUS[7..0] (out)

## DEC_CC4
designator U?
4-Bit Active Low Decoders; FPGAVendor: Xilinx; Published: 20-May-2005; Publisher: Altium Limited; HelpURL: http://toolbox.xilinx.com/docsan/xilinx7/books/docs/s3esc/s3esc.pdf
pins: A0 (in), A1 (in), A2 (in), A3 (in), C_IN (in), O (out)

## DEC_CC8
designator U?
8-Bit Active Low Decoders; FPGAVendor: Xilinx; Published: 20-May-2005; Publisher: Altium Limited; HelpURL: http://toolbox.xilinx.com/docsan/xilinx7/books/docs/s3esc/s3esc.pdf
pins: A0 (in), A1 (in), A2 (in), A3 (in), A4 (in), A5 (in), A6 (in), A7 (in), C_IN (in), O (out)

## DEC_CC16
designator U?
16-Bit Active Low Decoders; FPGAVendor: Xilinx; Published: 20-May-2005; Publisher: Altium Limited; HelpURL: http://toolbox.xilinx.com/docsan/xilinx7/books/docs/s3esc/s3esc.pdf
pins: A0 (in), A1 (in), A2 (in), A3 (in), A4 (in), A5 (in), A6 (in), A7 (in), A8 (in), A9 (in), A10 (in), A11 (in), A12 (in), A13 (in), A14 (in), A15 (in), C_IN (in), O (out)

## DECODE4
designator U?
4-Bit Active-Low Decoders; FPGAVendor: Xilinx; Published: 20-May-2005; Publisher: Altium Limited; HelpURL: http://toolbox.xilinx.com/docsan/xilinx7/books/docs/s3esc/s3esc.pdf
pins: A0 (in), A1 (in), A2 (in), A3 (in), O (out)

## DECODE8
designator U?
8-Bit Active-Low Decoders; FPGAVendor: Xilinx; Published: 20-May-2005; Publisher: Altium Limited; HelpURL: http://toolbox.xilinx.com/docsan/xilinx7/books/docs/s3esc/s3esc.pdf
pins: A0 (in), A1 (in), A2 (in), A3 (in), A4 (in), A5 (in), A6 (in), A7 (in), O (out)

## DECODE16
designator U?
16-Bit Active-Low Decoders; FPGAVendor: Xilinx; Published: 20-May-2005; Publisher: Altium Limited; HelpURL: http://toolbox.xilinx.com/docsan/xilinx7/books/docs/s3esc/s3esc.pdf
pins: A0 (in), A1 (in), A2 (in), A3 (in), A4 (in), A5 (in), A6 (in), A7 (in), A8 (in), A9 (in), A10 (in), A11 (in), A12 (in), A13 (in), A14 (in), A15 (in), O (out)

## DECODE32
designator U?
32-Bit Active-Low Decoders; FPGAVendor: Xilinx; Published: 20-May-2005; Publisher: Altium Limited; HelpURL: http://toolbox.xilinx.com/docsan/xilinx7/books/docs/s3esc/s3esc.pdf
pins: A0 (in), A1 (in), A2 (in), A3 (in), A4 (in), A5 (in), A6 (in), A7 (in), A8 (in), A9 (in), A10 (in), A11 (in), A12 (in), A13 (in), A14 (in), A15 (in), A16 (in), A17 (in), A18 (in), A19 (in), A20 (in), A21 (in), A22 (in), A23 (in), A24 (in), A25 (in), A26 (in), A27 (in), A28 (in), A29 (in), A30 (in), A31 (in), O (out)

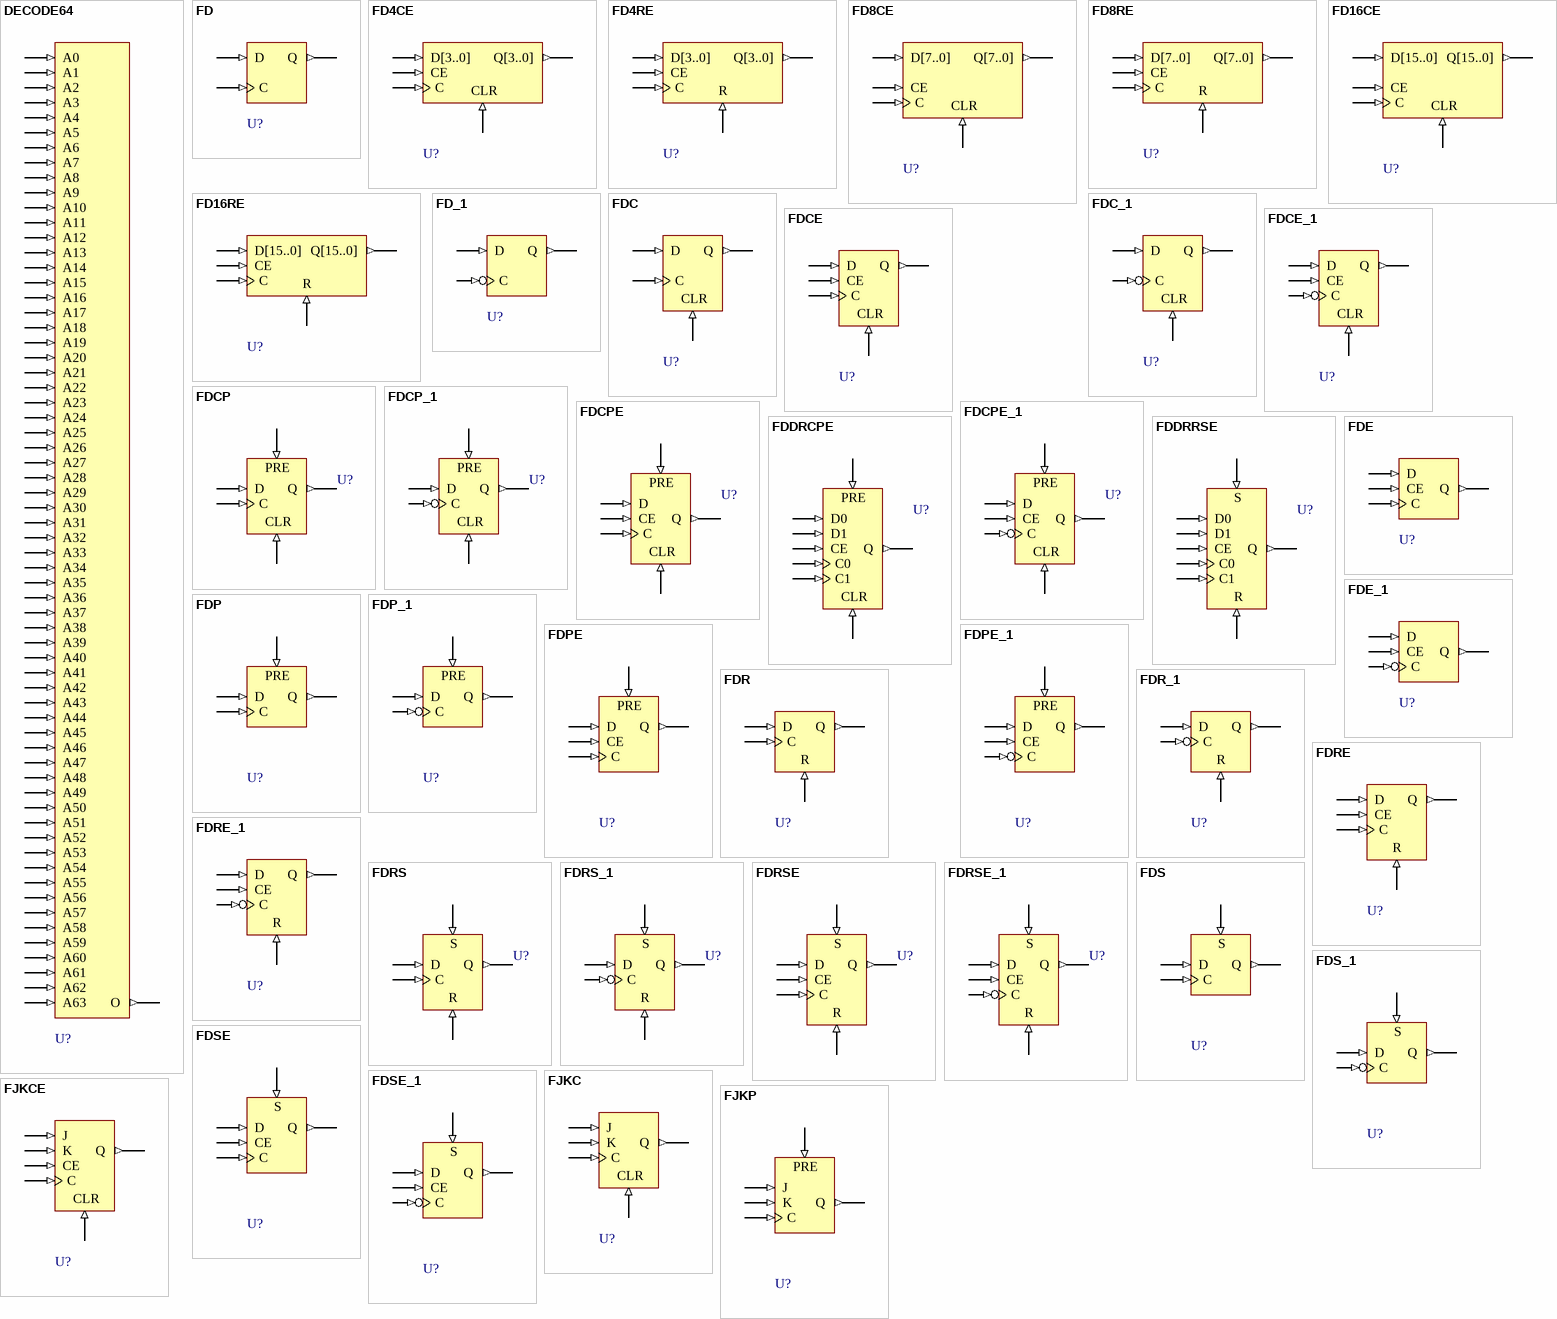
[diagram p3: symbols DECODE64 to FJKP]

## DECODE64
designator U?
64-Bit Active-Low Decoders; FPGAVendor: Xilinx; Published: 20-May-2005; Publisher: Altium Limited; HelpURL: http://toolbox.xilinx.com/docsan/xilinx7/books/docs/s3esc/s3esc.pdf
pins: A0 (in), A1 (in), A2 (in), A3 (in), A4 (in), A5 (in), A6 (in), A7 (in), A8 (in), A9 (in), A10 (in), A11 (in), A12 (in), A13 (in), A14 (in), A15 (in), A16 (in), A17 (in), A18 (in), A19 (in), A20 (in), A21 (in), A22 (in), A23 (in), A24 (in), A25 (in), A26 (in), A27 (in), A28 (in), A29 (in), A30 (in), A31 (in), A32 (in), A33 (in), A34 (in), A35 (in), A36 (in), A37 (in), A38 (in), A39 (in), A40 (in), A41 (in), A42 (in), A43 (in), A44 (in), A45 (in), A46 (in), A47 (in), A48 (in), A49 (in), A50 (in), A51 (in), A52 (in), A53 (in), A54 (in), A55 (in), A56 (in), A57 (in), A58 (in), A59 (in), A60 (in), A61 (in), A62 (in), A63 (in), O (out)

## FD
designator U?
D Flip-Flop; FPGAVendor: Xilinx; Published: 20-May-2005; Publisher: Altium Limited; HelpURL: http://toolbox.xilinx.com/docsan/xilinx7/books/docs/s3esc/s3esc.pdf
pins: C (in), D (in), Q (out)

## FD4CE
designator U?
4-Bit Data Registers with Clock Enable and Asynchronous Clear; FPGAVendor: Xilinx; Published: 20-May-2005; Publisher: Altium Limited; HelpURL: http://toolbox.xilinx.com/docsan/xilinx7/books/docs/s3esc/s3esc.pdf
pins: C (in), CE (in), CLR (in), D[3..0] (in), Q[3..0] (out)

## FD4RE
designator U?
4-Bit Data Registers with Clock Enable and Synchronous Reset; FPGAVendor: Xilinx; Published: 20-May-2005; Publisher: Altium Limited; HelpURL: http://toolbox.xilinx.com/docsan/xilinx7/books/docs/s3esc/s3esc.pdf
pins: C (in), CE (in), D[3..0] (in), Q[3..0] (out), R (in)

## FD8CE
designator U?
8-Bit Data Registers with Clock Enable and Asynchronous Clear; FPGAVendor: Xilinx; Published: 20-May-2005; Publisher: Altium Limited; HelpURL: http://toolbox.xilinx.com/docsan/xilinx7/books/docs/s3esc/s3esc.pdf
pins: C (in), CE (in), CLR (in), D[7..0] (in), Q[7..0] (out)

## FD8RE
designator U?
8-Bit Data Registers with Clock Enable and Synchronous Reset; FPGAVendor: Xilinx; Published: 20-May-2005; Publisher: Altium Limited; HelpURL: http://toolbox.xilinx.com/docsan/xilinx7/books/docs/s3esc/s3esc.pdf
pins: C (in), CE (in), D[7..0] (in), Q[7..0] (out), R (in)

## FD16CE
designator U?
16-Bit Data Registers with Clock Enable and Asynchronous Clear; FPGAVendor: Xilinx; Published: 20-May-2005; Publisher: Altium Limited; HelpURL: http://toolbox.xilinx.com/docsan/xilinx7/books/docs/s3esc/s3esc.pdf
pins: C (in), CE (in), CLR (in), D[15..0] (in), Q[15..0] (out)

## FD16RE
designator U?
16-Bit Data Registers with Clock Enable and Synchronous Reset; FPGAVendor: Xilinx; Published: 20-May-2005; Publisher: Altium Limited; HelpURL: http://toolbox.xilinx.com/docsan/xilinx7/books/docs/s3esc/s3esc.pdf
pins: C (in), CE (in), D[15..0] (in), Q[15..0] (out), R (in)

## FD_1
designator U?
D Flip-Flop with Negative-Edge Clock; FPGAVendor: Xilinx; Published: 20-May-2005; Publisher: Altium Limited; HelpURL: http://toolbox.xilinx.com/docsan/xilinx7/books/docs/s3esc/s3esc.pdf
pins: C (in), D (in), Q (out)

## FDC
designator U?
D Flip-Flop with Asynchronous Clear; FPGAVendor: Xilinx; Published: 20-May-2005; Publisher: Altium Limited; HelpURL: http://toolbox.xilinx.com/docsan/xilinx7/books/docs/s3esc/s3esc.pdf
pins: C (in), CLR (in), D (in), Q (out)

## FDC_1
designator U?
D Flip-Flop with Negative-Edge Clock and Asynchronous Clear; FPGAVendor: Xilinx; Published: 20-May-2005; Publisher: Altium Limited; HelpURL: http://toolbox.xilinx.com/docsan/xilinx7/books/docs/s3esc/s3esc.pdf
pins: C (in), CLR (in), D (in), Q (out)

## FDCE
designator U?
D Flip-Flop with Clock Enable and Asynchronous Clear; FPGAVendor: Xilinx; Published: 20-May-2005; Publisher: Altium Limited; HelpURL: http://toolbox.xilinx.com/docsan/xilinx7/books/docs/s3esc/s3esc.pdf
pins: C (in), CE (in), CLR (in), D (in), Q (out)

## FDCE_1
designator U?
D Flip-Flop with Negative-Edge Clock, Clock Enable, and Asynchronous Clear; FPGAVendor: Xilinx; Published: 20-May-2005; Publisher: Altium Limited; HelpURL: http://toolbox.xilinx.com/docsan/xilinx7/books/docs/s3esc/s3esc.pdf
pins: C (in), CE (in), CLR (in), D (in), Q (out)

## FDCP
designator U?
D Flip-Flop Asynchronous Preset and Clear; FPGAVendor: Xilinx; Published: 20-May-2005; Publisher: Altium Limited; HelpURL: http://toolbox.xilinx.com/docsan/xilinx7/books/docs/s3esc/s3esc.pdf
pins: C (in), CLR (in), D (in), PRE (in), Q (out)

## FDCP_1
designator U?
D Flip-Flop with Negative-Edge Clock and Asynchronous Preset and Clear; FPGAVendor: Xilinx; Published: 20-May-2005; Publisher: Altium Limited; HelpURL: http://toolbox.xilinx.com/docsan/xilinx7/books/docs/s3esc/s3esc.pdf
pins: C (in), CLR (in), D (in), PRE (in), Q (out)

## FDCPE
designator U?
D Flip-Flop with Clock Enable and Asynchronous Preset and Clear; FPGAVendor: Xilinx; Published: 20-May-2005; Publisher: Altium Limited; HelpURL: http://toolbox.xilinx.com/docsan/xilinx7/books/docs/s3esc/s3esc.pdf
pins: C (in), CE (in), CLR (in), D (in), PRE (in), Q (out)

## FDCPE_1
designator U?
D Flip-Flop with Negative-Edge Clock, Clock Enable, and Asynchronous Preset and Clear; FPGAVendor: Xilinx; Published: 20-May-2005; Publisher: Altium Limited; HelpURL: http://toolbox.xilinx.com/docsan/xilinx7/books/docs/s3esc/s3esc.pdf
pins: C (in), CE (in), CLR (in), D (in), PRE (in), Q (out)

## FDDRCPE
designator U?
Dual Data Rate D Flip-Flop with Clock Enable and Asynchronous Preset and Clear; FPGAVendor: Xilinx; Published: 20-May-2005; Publisher: Altium Limited; HelpURL: http://toolbox.xilinx.com/docsan/xilinx7/books/docs/s3esc/s3esc.pdf
pins: C0 (in), C1 (in), CE (in), CLR (in), D0 (in), D1 (in), PRE (in), Q (out)

## FDDRRSE
designator U?
Dual Data Rate D Flip-Flop with Clock Enable and Synchronous Reset and Set; FPGAVendor: Xilinx; Published: 20-May-2005; Publisher: Altium Limited; HelpURL: http://toolbox.xilinx.com/docsan/xilinx7/books/docs/s3esc/s3esc.pdf
pins: C0 (in), C1 (in), CE (in), D0 (in), D1 (in), Q (out), R (in), S (in)

## FDE
designator U?
D Flip-Flop with Clock Enable; FPGAVendor: Xilinx; Published: 20-May-2005; Publisher: Altium Limited; HelpURL: http://toolbox.xilinx.com/docsan/xilinx7/books/docs/s3esc/s3esc.pdf
pins: C (in), CE (in), D (in), Q (out)

## FDE_1
designator U?
D Flip-Flop with Negative-Edge Clock and Clock Enable; FPGAVendor: Xilinx; Published: 20-May-2005; Publisher: Altium Limited; HelpURL: http://toolbox.xilinx.com/docsan/xilinx7/books/docs/s3esc/s3esc.pdf
pins: C (in), CE (in), D (in), Q (out)

## FDP
designator U?
D Flip-Flop with Asynchronous Preset; FPGAVendor: Xilinx; Published: 20-May-2005; Publisher: Altium Limited; HelpURL: http://toolbox.xilinx.com/docsan/xilinx7/books/docs/s3esc/s3esc.pdf
pins: C (in), D (in), PRE (in), Q (out)

## FDP_1
designator U?
D Flip-Flop with Negative-Edge Clock and Asynchronous Preset; FPGAVendor: Xilinx; Published: 20-May-2005; Publisher: Altium Limited; HelpURL: http://toolbox.xilinx.com/docsan/xilinx7/books/docs/s3esc/s3esc.pdf
pins: C (in), D (in), PRE (in), Q (out)

## FDPE
designator U?
D Flip-Flop with Clock Enable and Asynchronous Preset; FPGAVendor: Xilinx; Published: 20-May-2005; Publisher: Altium Limited; HelpURL: http://toolbox.xilinx.com/docsan/xilinx7/books/docs/s3esc/s3esc.pdf
pins: C (in), CE (in), D (in), PRE (in), Q (out)

## FDPE_1
designator U?
D Flip-Flop with Negative-Edge Clock, Clock Enable, and Asynchronous Preset; FPGAVendor: Xilinx; Published: 20-May-2005; Publisher: Altium Limited; HelpURL: http://toolbox.xilinx.com/docsan/xilinx7/books/docs/s3esc/s3esc.pdf
pins: C (in), CE (in), D (in), PRE (in), Q (out)

## FDR
designator U?
D Flip-Flop with Synchronous Reset; FPGAVendor: Xilinx; Published: 20-May-2005; Publisher: Altium Limited; HelpURL: http://toolbox.xilinx.com/docsan/xilinx7/books/docs/s3esc/s3esc.pdf
pins: C (in), D (in), Q (out), R (in)

## FDR_1
designator U?
D Flip-Flop with Negative-Edge Clock and Synchronous Reset; FPGAVendor: Xilinx; Published: 20-May-2005; Publisher: Altium Limited; HelpURL: http://toolbox.xilinx.com/docsan/xilinx7/books/docs/s3esc/s3esc.pdf
pins: C (in), D (in), Q (out), R (in)

## FDRE
designator U?
D Flip-Flop with Clock Enable and Synchronous Reset; FPGAVendor: Xilinx; Published: 20-May-2005; Publisher: Altium Limited; HelpURL: http://toolbox.xilinx.com/docsan/xilinx7/books/docs/s3esc/s3esc.pdf
pins: C (in), CE (in), D (in), Q (out), R (in)

## FDRE_1
designator U?
D Flip-Flop with Negative-Clock Edge, Clock Enable, and Synchronous Reset; FPGAVendor: Xilinx; Published: 20-May-2005; Publisher: Altium Limited; HelpURL: http://toolbox.xilinx.com/docsan/xilinx7/books/docs/s3esc/s3esc.pdf
pins: C (in), CE (in), D (in), Q (out), R (in)

## FDRS
designator U?
D Flip-Flop with Synchronous Reset and Set; FPGAVendor: Xilinx; Published: 20-May-2005; Publisher: Altium Limited; HelpURL: http://toolbox.xilinx.com/docsan/xilinx7/books/docs/s3esc/s3esc.pdf
pins: C (in), D (in), Q (out), R (in), S (in)

## FDRS_1
designator U?
D Flip-Flop with Negative-Clock Edge and Synchronous Reset and Set; FPGAVendor: Xilinx; Published: 20-May-2005; Publisher: Altium Limited; HelpURL: http://toolbox.xilinx.com/docsan/xilinx7/books/docs/s3esc/s3esc.pdf
pins: C (in), D (in), Q (out), R (in), S (in)

## FDRSE
designator U?
D Flip-Flop with Synchronous Reset and Set and Clock Enable; FPGAVendor: Xilinx; Published: 20-May-2005; Publisher: Altium Limited; HelpURL: http://toolbox.xilinx.com/docsan/xilinx7/books/docs/s3esc/s3esc.pdf
pins: C (in), CE (in), D (in), Q (out), R (in), S (in)

## FDRSE_1
designator U?
D Flip-Flop with Negative-Clock Edge, Synchronous Reset and Set, and Clock Enable; FPGAVendor: Xilinx; Published: 20-May-2005; Publisher: Altium Limited; HelpURL: http://toolbox.xilinx.com/docsan/xilinx7/books/docs/s3esc/s3esc.pdf
pins: C (in), CE (in), D (in), Q (out), R (in), S (in)

## FDS
designator U?
D Flip-Flop with Synchronous Set; FPGAVendor: Xilinx; Published: 20-May-2005; Publisher: Altium Limited; HelpURL: http://toolbox.xilinx.com/docsan/xilinx7/books/docs/s3esc/s3esc.pdf
pins: C (in), D (in), Q (out), S (in)

## FDS_1
designator U?
D Flip-Flop with Negative-Edge Clock and Synchronous Set; FPGAVendor: Xilinx; Published: 20-May-2005; Publisher: Altium Limited; HelpURL: http://toolbox.xilinx.com/docsan/xilinx7/books/docs/s3esc/s3esc.pdf
pins: C (in), D (in), Q (out), S (in)

## FDSE
designator U?
D Flip-Flop with Clock Enable and Synchronous Set; FPGAVendor: Xilinx; Published: 20-May-2005; Publisher: Altium Limited; HelpURL: http://toolbox.xilinx.com/docsan/xilinx7/books/docs/s3esc/s3esc.pdf
pins: C (in), CE (in), D (in), Q (out), S (in)

## FDSE_1
designator U?
D Flip-Flop with Negative-Edge Clock, Clock Enable, and Synchronous Set; FPGAVendor: Xilinx; Published: 20-May-2005; Publisher: Altium Limited; HelpURL: http://toolbox.xilinx.com/docsan/xilinx7/books/docs/s3esc/s3esc.pdf
pins: C (in), CE (in), D (in), Q (out), S (in)

## FJKC
designator U?
J-K Flip-Flop with Asynchronous Clear; FPGAVendor: Xilinx; Published: 20-May-2005; Publisher: Altium Limited; HelpURL: http://toolbox.xilinx.com/docsan/xilinx7/books/docs/s3esc/s3esc.pdf
pins: C (in), CLR (in), J (in), K (in), Q (out)

## FJKCE
designator U?
J-K Flip-Flop with Clock Enable and Asynchronous Clear; FPGAVendor: Xilinx; Published: 20-May-2005; Publisher: Altium Limited; HelpURL: http://toolbox.xilinx.com/docsan/xilinx7/books/docs/s3esc/s3esc.pdf
pins: C (in), CE (in), CLR (in), J (in), K (in), Q (out)

## FJKP
designator U?
J-K Flip-Flop with Asynchronous Preset; FPGAVendor: Xilinx; Published: 20-May-2005; Publisher: Altium Limited; HelpURL: http://toolbox.xilinx.com/docsan/xilinx7/books/docs/s3esc/s3esc.pdf
pins: C (in), J (in), K (in), PRE (in), Q (out)

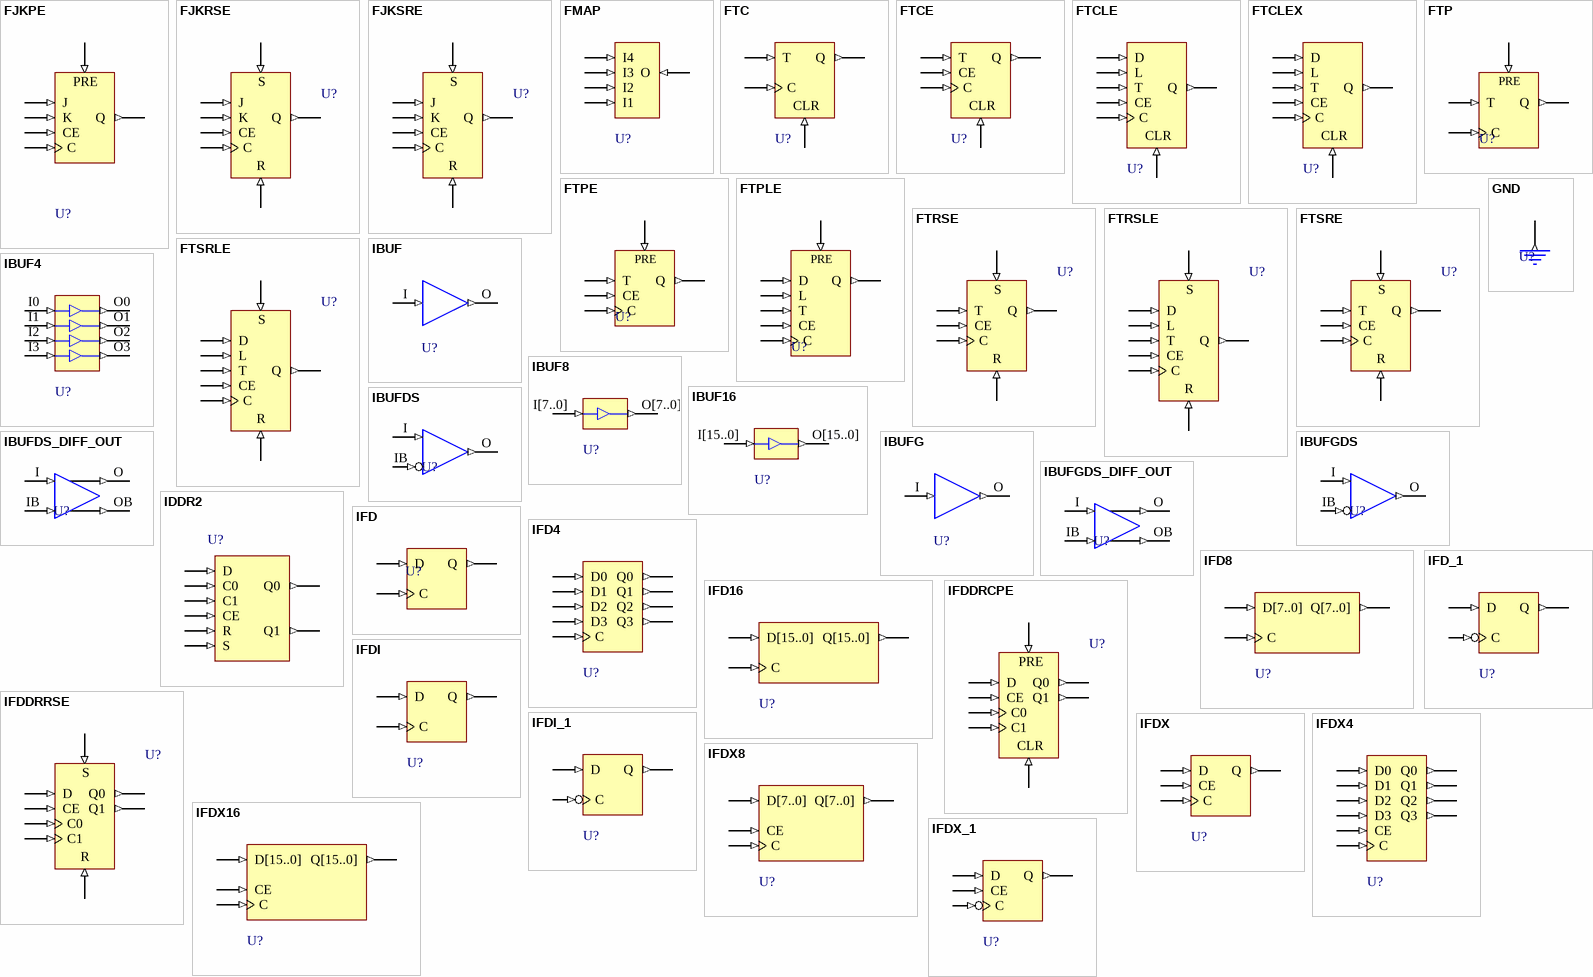
[diagram p4: symbols FJKPE to IFDX_1]

## FJKPE
designator U?
J-K Flip-Flop with Clock Enable and Asynchronous Preset; FPGAVendor: Xilinx; Published: 20-May-2005; Publisher: Altium Limited; HelpURL: http://toolbox.xilinx.com/docsan/xilinx7/books/docs/s3esc/s3esc.pdf
pins: C (in), CE (in), J (in), K (in), PRE (in), Q (out)

## FJKRSE
designator U?
J-K Flip-Flop with Clock Enable and Synchronous Reset and Set; FPGAVendor: Xilinx; Published: 20-May-2005; Publisher: Altium Limited; HelpURL: http://toolbox.xilinx.com/docsan/xilinx7/books/docs/s3esc/s3esc.pdf
pins: C (in), CE (in), J (in), K (in), Q (out), R (in), S (in)

## FJKSRE
designator U?
J-K Flip-Flop with Clock Enable and Synchronous Set and Reset; FPGAVendor: Xilinx; Published: 20-May-2005; Publisher: Altium Limited; HelpURL: http://toolbox.xilinx.com/docsan/xilinx7/books/docs/s3esc/s3esc.pdf
pins: C (in), CE (in), J (in), K (in), Q (out), R (in), S (in)

## FMAP
designator U?
F Function Generator Partitioning Control Symbol; FPGAVendor: Xilinx; Published: 20-May-2005; Publisher: Altium Limited; HelpURL: http://toolbox.xilinx.com/docsan/xilinx7/books/docs/s3esc/s3esc.pdf
pins: I1 (in), I2 (in), I3 (in), I4 (in), O (in)

## FTC
designator U?
Toggle Flip-Flop with Toggle Enable and Asynchronous Clear; FPGAVendor: Xilinx; Published: 20-May-2005; Publisher: Altium Limited; HelpURL: http://toolbox.xilinx.com/docsan/xilinx7/books/docs/s3esc/s3esc.pdf
pins: C (in), CLR (in), Q (out), T (in)

## FTCE
designator U?
Toggle Flip-Flop with Toggle and Clock Enable and Asynchronous Clear; FPGAVendor: Xilinx; Published: 20-May-2005; Publisher: Altium Limited; HelpURL: http://toolbox.xilinx.com/docsan/xilinx7/books/docs/s3esc/s3esc.pdf
pins: C (in), CE (in), CLR (in), Q (out), T (in)

## FTCLE
designator U?
Toggle/Loadable Flip-Flop with Toggle and Clock Enable and Asynchronous Clear; FPGAVendor: Xilinx; Published: 20-May-2005; Publisher: Altium Limited; HelpURL: http://toolbox.xilinx.com/docsan/xilinx7/books/docs/s3esc/s3esc.pdf
pins: C (in), CE (in), CLR (in), D (in), L (in), Q (out), T (in)

## FTCLEX
designator U?
Toggle/Loadable Flip-Flop with Toggle and Clock Enable and Asynchronous Clear; FPGAVendor: Xilinx; Published: 20-May-2005; Publisher: Altium Limited; HelpURL: http://toolbox.xilinx.com/docsan/xilinx7/books/docs/s3esc/s3esc.pdf
pins: C (in), CE (in), CLR (in), D (in), L (in), Q (out), T (in)

## FTP
designator U?
Toggle Flip-Flop with Toggle Enable and Asynchronous Preset; FPGAVendor: Xilinx; Published: 20-May-2005; Publisher: Altium Limited; HelpURL: http://toolbox.xilinx.com/docsan/xilinx7/books/docs/s3esc/s3esc.pdf
pins: C (in), PRE (in), Q (out), T (in)

## FTPE
designator U?
Toggle Flip-Flop with Toggle and Clock Enable and Asynchronous Preset; FPGAVendor: Xilinx; Published: 20-May-2005; Publisher: Altium Limited; HelpURL: http://toolbox.xilinx.com/docsan/xilinx7/books/docs/s3esc/s3esc.pdf
pins: C (in), CE (in), PRE (in), Q (out), T (in)

## FTPLE
designator U?
Toggle/Loadable Flip-Flop with Toggle and Clock Enable and Asynchronous Preset; FPGAVendor: Xilinx; Published: 20-May-2005; Publisher: Altium Limited; HelpURL: http://toolbox.xilinx.com/docsan/xilinx7/books/docs/s3esc/s3esc.pdf
pins: C (in), CE (in), D (in), L (in), PRE (in), Q (out), T (in)

## FTRSE
designator U?
Toggle Flip-Flop with Toggle and Clock Enable and Synchronous Reset and Set; FPGAVendor: Xilinx; Published: 20-May-2005; Publisher: Altium Limited; HelpURL: http://toolbox.xilinx.com/docsan/xilinx7/books/docs/s3esc/s3esc.pdf
pins: C (in), CE (in), Q (out), R (in), S (in), T (in)

## FTRSLE
designator U?
Toggle/Loadable Flip-Flop with Toggle and Clock Enable and Synchronous Reset and Set; FPGAVendor: Xilinx; Published: 20-May-2005; Publisher: Altium Limited; HelpURL: http://toolbox.xilinx.com/docsan/xilinx7/books/docs/s3esc/s3esc.pdf
pins: C (in), CE (in), D (in), L (in), Q (out), R (in), S (in), T (in)

## FTSRE
designator U?
Toggle Flip-Flop with Toggle and Clock Enable and Synchronous Set and Reset; FPGAVendor: Xilinx; Published: 20-May-2005; Publisher: Altium Limited; HelpURL: http://toolbox.xilinx.com/docsan/xilinx7/books/docs/s3esc/s3esc.pdf
pins: C (in), CE (in), Q (out), R (in), S (in), T (in)

## FTSRLE
designator U?
Toggle/Loadable Flip-Flop with Toggle and Clock Enable and Synchronous Set and Reset; FPGAVendor: Xilinx; Published: 20-May-2005; Publisher: Altium Limited; HelpURL: http://toolbox.xilinx.com/docsan/xilinx7/books/docs/s3esc/s3esc.pdf
pins: C (in), CE (in), D (in), L (in), Q (out), R (in), S (in), T (in)

## GND
designator U?
Ground-Connection Signal Tag; FPGAVendor: Xilinx; Published: 20-May-2005; Publisher: Altium Limited; HelpURL: http://toolbox.xilinx.com/docsan/xilinx7/books/docs/s3esc/s3esc.pdf
pins: G (out)

## IBUF
designator U?
Single-Input Buffer; FPGAVendor: Xilinx; Published: 20-May-2005; Publisher: Altium Limited; HelpURL: http://toolbox.xilinx.com/docsan/xilinx7/books/docs/s3esc/s3esc.pdf
pins: I (in), O (out)

## IBUF4
designator U?
Multiple-Input Buffer; FPGAVendor: Xilinx; Published: 20-May-2005; Publisher: Altium Limited; HelpURL: http://toolbox.xilinx.com/docsan/xilinx7/books/docs/s3esc/s3esc.pdf
pins: I0 (in), I1 (in), I2 (in), I3 (in), O0 (out), O1 (out), O2 (out), O3 (out)

## IBUF8
designator U?
Multiple-Input Buffer; FPGAVendor: Xilinx; Published: 20-May-2005; Publisher: Altium Limited; HelpURL: http://toolbox.xilinx.com/docsan/xilinx7/books/docs/s3esc/s3esc.pdf
pins: I[7..0] (in), O[7..0] (out)

## IBUF16
designator U?
Multiple-Input Buffer; FPGAVendor: Xilinx; Published: 20-May-2005; Publisher: Altium Limited; HelpURL: http://toolbox.xilinx.com/docsan/xilinx7/books/docs/s3esc/s3esc.pdf
pins: I[15..0] (in), O[15..0] (out)

## IBUFDS
designator U?
Differential Signaling Input Buffer with Selectable I/O Interface; FPGAVendor: Xilinx; Published: 20-May-2005; Publisher: Altium Limited; HelpURL: http://toolbox.xilinx.com/docsan/xilinx7/books/docs/s3esc/s3esc.pdf
pins: I (in), IB (in), O (out)